# Altium integrated library Capacitor - RF.IntLib: 172 symbols (part 1 of 3)
Pins are listed as number, name and electrical type; pins without a type are passive.

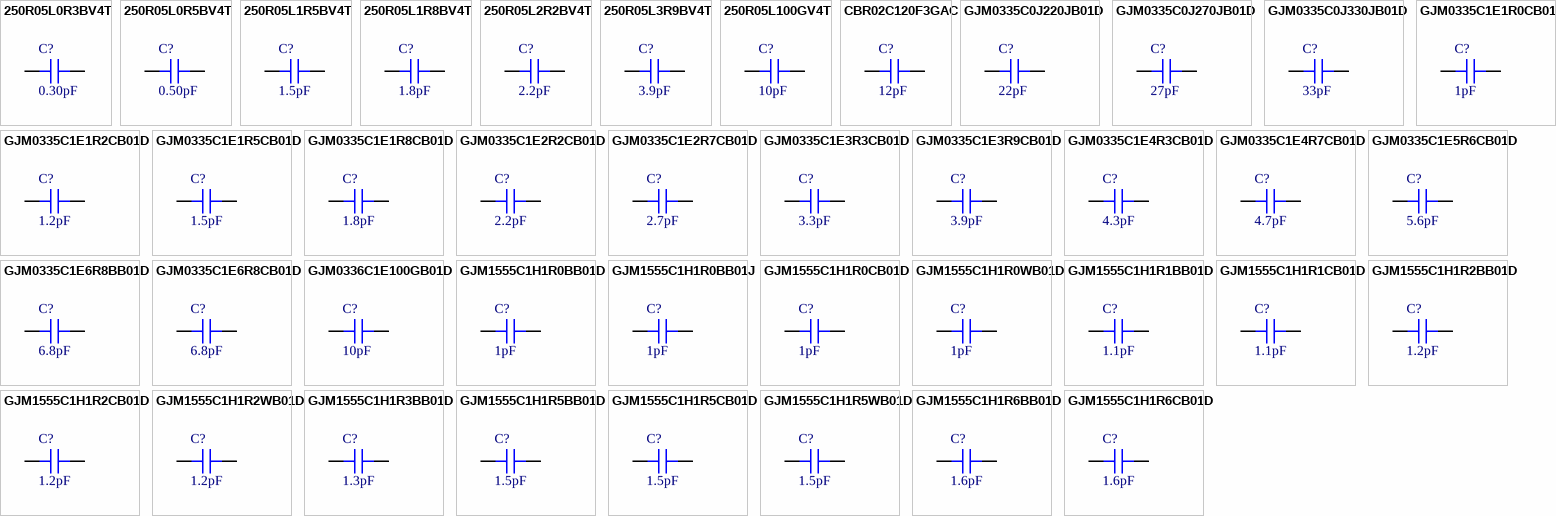
[diagram p0: symbols 250R05L0R3BV4T to GJM1555C1H1R6CB01D]

## 250R05L0R3BV4T
designator C?, comment 0.30pF
CAP CER 0.3PF 25V NP0 0201; Part Number: 250R05L0R3BV4T; Manufacturer: Johanson Technology Inc.; TemperatureRange: -55C ~ 125C; TemperatureCoefficient: C0G, NP0; Tolerance: 0.1pF; Value: 0.30pF; PartId: 21121; Supplier 1: Digi-Key; Supplier Part Number 1: 712-1466-2-ND; ComponentLink1Description: Datasheet; ComponentLink1URL: http://www.johansontechnology.com/downloads/JTI-CAT-MLCC-HighQ.pdf; ComponentLink2Description: Digi-Key Listing; ComponentLink2URL: https://www.digikey.com/product-detail/en/johanson-technology-inc/250R05L0R3BV4T/712-1466-2-ND/1916336; Voltage: 25V; Price: 0.01; Device Package: 0201 (0603 Metric)
footprint CAP 0201/0603 RF
pins: 1, 2

## 250R05L0R5BV4T
designator C?, comment 0.50pF
CAP CER 0.5PF 25V NP0 0201; Part Number: 250R05L0R5BV4T; Manufacturer: Johanson Technology Inc.; TemperatureRange: -55C ~ 125C; TemperatureCoefficient: C0G, NP0; Tolerance: 0.1pF; Value: 0.50pF; PartId: 21122; Supplier 1: Digi-Key; Supplier Part Number 1: 712-1467-2-ND; ComponentLink1Description: Datasheet; ComponentLink1URL: http://www.johansontechnology.com/downloads/JTI-CAT-MLCC-HighQ.pdf; ComponentLink2Description: Digi-Key Listing; ComponentLink2URL: https://www.digikey.com/product-detail/en/johanson-technology-inc/250R05L0R5BV4T/712-1467-2-ND/1916338; Voltage: 25V; Price: 0.01; Device Package: 0201 (0603 Metric)
footprint CAP 0201/0603 RF
pins: 1, 2

## 250R05L1R5BV4T
designator C?, comment 1.5pF
CAP CER 1.5PF 25V NP0 0201; Part Number: 250R05L1R5BV4T; Manufacturer: Johanson Technology Inc.; TemperatureRange: -55C ~ 125C; TemperatureCoefficient: C0G, NP0; Tolerance: 0.1pF; Value: 1.5pF; PartId: 21099; Supplier 1: Digi-Key; Supplier Part Number 1: 712-1185-2-ND; ComponentLink1Description: Datasheet; ComponentLink1URL: http://www.johansontechnology.com/downloads/JTI-CAT-MLCC-HighQ.pdf; ComponentLink2Description: Digi-Key Listing; ComponentLink2URL: https://www.digikey.com/product-detail/en/johanson-technology-inc/250R05L1R5BV4T/712-1185-2-ND/1561452; Voltage: 25V; Price: 0.0247; Device Package: 0201 (0603 Metric)
footprint CAP 0201/0603 RF
pins: 1, 2

## 250R05L1R8BV4T
designator C?, comment 1.8pF
CAP CER 1.8PF 25V NP0 0201; Part Number: 250R05L1R8BV4T; Manufacturer: Johanson Technology Inc.; TemperatureRange: -55C ~ 125C; TemperatureCoefficient: C0G, NP0; Tolerance: 0.1pF; Value: 1.8pF; PartId: 21100; Supplier 1: Digi-Key; Supplier Part Number 1: 712-1186-2-ND; ComponentLink1Description: Datasheet; ComponentLink1URL: http://www.johansontechnology.com/downloads/JTI-CAT-MLCC-HighQ.pdf; ComponentLink2Description: Digi-Key Listing; ComponentLink2URL: https://www.digikey.com/product-detail/en/johanson-technology-inc/250R05L1R8BV4T/712-1186-2-ND/1561453; Voltage: 25V; Price: 0.0247; Device Package: 0201 (0603 Metric)
footprint CAP 0201/0603 RF
pins: 1, 2

## 250R05L2R2BV4T
designator C?, comment 2.2pF
CAP CER 2.2PF 25V NP0 0201; Part Number: 250R05L2R2BV4T; Manufacturer: Johanson Technology Inc.; TemperatureRange: -55C ~ 125C; TemperatureCoefficient: C0G, NP0; Tolerance: 0.1pF; Value: 2.2pF; PartId: 21103; Supplier 1: Digi-Key; Supplier Part Number 1: 712-1188-2-ND; ComponentLink1Description: Datasheet; ComponentLink1URL: http://www.johansontechnology.com/downloads/JTI-CAT-MLCC-HighQ.pdf; ComponentLink2Description: Digi-Key Listing; ComponentLink2URL: https://www.digikey.com/product-detail/en/johanson-technology-inc/250R05L2R2BV4T/712-1188-2-ND/1561456; Voltage: 25V; Price: 0.0342; Device Package: 0201 (0603 Metric)
footprint CAP 0201/0603 RF
pins: 1, 2

## 250R05L3R9BV4T
designator C?, comment 3.9pF
CAP CER 3.9PF 25V NP0 0201; Part Number: 250R05L3R9BV4T; Manufacturer: Johanson Technology Inc.; TemperatureRange: -55C ~ 125C; TemperatureCoefficient: C0G, NP0; Tolerance: 0.1pF; Value: 3.9pF; PartId: 21101; Supplier 1: Digi-Key; Supplier Part Number 1: 712-1470-2-ND; ComponentLink1Description: Datasheet; ComponentLink1URL: http://www.johansontechnology.com/downloads/JTI-CAT-MLCC-HighQ.pdf; ComponentLink2Description: Digi-Key Listing; ComponentLink2URL: https://www.digikey.com/product-detail/en/johanson-technology-inc/250R05L3R9BV4T/712-1470-2-ND/1916344; Voltage: 25V; Price: 0.0342; Device Package: 0201 (0603 Metric)
footprint CAP 0201/0603 RF
pins: 1, 2

## 250R05L100GV4T
designator C?, comment 10pF
CAP CER 10PF 25V NP0 0201; Part Number: 250R05L100GV4T; Manufacturer: Johanson Technology Inc.; TemperatureRange: -55C ~ 125C; TemperatureCoefficient: C0G, NP0; Tolerance: 2%; Value: 10pF; PartId: 21102; Supplier 1: Digi-Key; Supplier Part Number 1: 712-1204-2-ND; ComponentLink1Description: Datasheet; ComponentLink1URL: http://www.johansontechnology.com/downloads/JTI-CAT-MLCC-HighQ.pdf; ComponentLink2Description: Digi-Key Listing; ComponentLink2URL: https://www.digikey.com/product-detail/en/johanson-technology-inc/250R05L100GV4T/712-1204-2-ND/1561472; Voltage: 25V; Price: 0.0342; Device Package: 0201 (0603 Metric)
footprint CAP 0201/0603 RF
pins: 1, 2

## CBR02C120F3GAC
designator C?, comment 12pF
CAP CER 12PF 25V NP0 0201; Part Number: CBR02C120F3GAC; Manufacturer: Kemet; TemperatureRange: -55C ~ 125C; TemperatureCoefficient: C0G, NP0; Tolerance: 1%; Value: 12pF; PartId: 21104; Supplier 1: Digi-Key; Supplier Part Number 1: 399-8604-2-ND; ComponentLink1Description: Datasheet; ComponentLink1URL: http://www.kemet.com/docfinder?Partnumber=CBR02C120F3GAC; ComponentLink2Description: Digi-Key Listing; ComponentLink2URL: https://www.digikey.com/product-detail/en/kemet/CBR02C120F3GAC/399-8604-2-ND/3479199; Voltage: 25V; Price: 0.064; Device Package: 0201 (0603 Metric)
footprint CAP 0201/0603 RF
pins: 1, 2

## GJM0335C0J220JB01D
designator C?, comment 22pF
CAP CER 22PF 6.3V NP0 0201; Part Number: GJM0335C0J220JB01D; Manufacturer: Murata Electronics North America; TemperatureRange: -55C ~ 125C; TemperatureCoefficient: C0G, NP0; Tolerance: 5%; Value: 22pF; PartId: 21116; Supplier 1: Digi-Key; Supplier Part Number 1: 490-6068-2-ND; ComponentLink1Description: Datasheet; ComponentLink1URL: http://www.murata.com/~/media/webrenewal/support/library/catalog/products/capacitor/mlcc/c02e.pdf; ComponentLink2Description: Digi-Key Listing; ComponentLink2URL: https://www.digikey.com/product-detail/en/murata-electronics-north-america/GJM0335C0J220JB01D/490-6068-2-ND/2592493; Voltage: 6.3V; Price: 0.0076; Device Package: 0201 (0603 Metric)
footprint CAP 0201/0603 RF
pins: 1, 2

## GJM0335C0J270JB01D
designator C?, comment 27pF
CAP CER 27PF 6.3V NP0 0201; Part Number: GJM0335C0J270JB01D; Manufacturer: Murata Electronics North America; TemperatureRange: -55C ~ 125C; TemperatureCoefficient: C0G, NP0; Tolerance: 5%; Value: 27pF; PartId: 21117; Supplier 1: Digi-Key; Supplier Part Number 1: 490-8067-2-ND; ComponentLink1Description: Datasheet; ComponentLink1URL: http://www.murata.com/~/media/webrenewal/support/library/catalog/products/capacitor/mlcc/c02e.pdf; ComponentLink2Description: Digi-Key Listing; ComponentLink2URL: https://www.digikey.com/product-detail/en/murata-electronics-north-america/GJM0335C0J270JB01D/490-8067-2-ND/2592497; Voltage: 6.3V; Price: 0.0076; Device Package: 0201 (0603 Metric)
footprint CAP 0201/0603 RF
pins: 1, 2

## GJM0335C0J330JB01D
designator C?, comment 33pF
CAP CER 33PF 6.3V NP0 0201; Part Number: GJM0335C0J330JB01D; Manufacturer: Murata Electronics North America; TemperatureRange: -55C ~ 125C; TemperatureCoefficient: C0G, NP0; Tolerance: 5%; Value: 33pF; PartId: 21115; Supplier 1: Digi-Key; Supplier Part Number 1: 490-8068-2-ND; ComponentLink1Description: Datasheet; ComponentLink1URL: http://www.murata.com/~/media/webrenewal/support/library/catalog/products/capacitor/mlcc/c02e.pdf; ComponentLink2Description: Digi-Key Listing; ComponentLink2URL: https://www.digikey.com/product-detail/en/murata-electronics-north-america/GJM0335C0J330JB01D/490-8068-2-ND/2592501; Voltage: 6.3V; Price: 0.0076; Device Package: 0201 (0603 Metric)
footprint CAP 0201/0603 RF
pins: 1, 2

## GJM0335C1E1R0CB01D
designator C?, comment 1pF
CAP CER 1PF 25V NP0 0201; Part Number: GJM0335C1E1R0CB01D; Manufacturer: Murata Electronics North America; TemperatureRange: -55C ~ 125C; TemperatureCoefficient: C0G, NP0; Tolerance: 0.25pF; Value: 1pF; PartId: 21119; Supplier 1: Digi-Key; Supplier Part Number 1: 490-3053-2-ND; ComponentLink1Description: Datasheet; ComponentLink1URL: http://www.murata.com/~/media/webrenewal/support/library/catalog/products/capacitor/mlcc/c02e.pdf; ComponentLink2Description: Digi-Key Listing; ComponentLink2URL: https://www.digikey.com/product-detail/en/murata-electronics-north-america/GJM0335C1E1R0CB01D/490-3053-2-ND/702246; Voltage: 25V; Price: 0.009; Device Package: 0201 (0603 Metric)
footprint CAP 0201/0603 RF
pins: 1, 2

## GJM0335C1E1R2CB01D
designator C?, comment 1.2pF
CAP CER 1.2PF 25V NP0 0201; Part Number: GJM0335C1E1R2CB01D; Manufacturer: Murata Electronics North America; TemperatureRange: -55C ~ 125C; TemperatureCoefficient: C0G, NP0; Tolerance: 0.25pF; Value: 1.2pF; PartId: 21111; Supplier 1: Digi-Key; Supplier Part Number 1: 490-3055-2-ND; ComponentLink1Description: Datasheet; ComponentLink1URL: http://www.murata.com/~/media/webrenewal/support/library/catalog/products/capacitor/mlcc/c02e.pdf; ComponentLink2Description: Digi-Key Listing; ComponentLink2URL: https://www.digikey.com/product-detail/en/murata-electronics-north-america/GJM0335C1E1R2CB01D/490-3055-2-ND/702248; Voltage: 25V; Price: 0.0062; Device Package: 0201 (0603 Metric)
footprint CAP 0201/0603 RF
pins: 1, 2

## GJM0335C1E1R5CB01D
designator C?, comment 1.5pF
CAP CER 1.5PF 25V NP0 0201; Part Number: GJM0335C1E1R5CB01D; Manufacturer: Murata Electronics North America; TemperatureRange: -55C ~ 125C; TemperatureCoefficient: C0G, NP0; Tolerance: 0.25pF; Value: 1.5pF; PartId: 21108; Supplier 1: Digi-Key; Supplier Part Number 1: 490-3057-2-ND; ComponentLink1Description: Datasheet; ComponentLink1URL: http://www.murata.com/~/media/webrenewal/support/library/catalog/products/capacitor/mlcc/c02e.pdf; ComponentLink2Description: Digi-Key Listing; ComponentLink2URL: https://www.digikey.com/product-detail/en/murata-electronics-north-america/GJM0335C1E1R5CB01D/490-3057-2-ND/702250; Voltage: 25V; Price: 0.0062; Device Package: 0201 (0603 Metric)
footprint CAP 0201/0603 RF
pins: 1, 2

## GJM0335C1E1R8CB01D
designator C?, comment 1.8pF
CAP CER 1.8PF 25V NP0 0201; Part Number: GJM0335C1E1R8CB01D; Manufacturer: Murata Electronics North America; TemperatureRange: -55C ~ 125C; TemperatureCoefficient: C0G, NP0; Tolerance: 0.25pF; Value: 1.8pF; PartId: 21106; Supplier 1: Digi-Key; Supplier Part Number 1: 490-3059-2-ND; ComponentLink1Description: Datasheet; ComponentLink1URL: http://www.murata.com/~/media/webrenewal/support/library/catalog/products/capacitor/mlcc/c02e.pdf; ComponentLink2Description: Digi-Key Listing; ComponentLink2URL: https://www.digikey.com/product-detail/en/murata-electronics-north-america/GJM0335C1E1R8CB01D/490-3059-2-ND/702252; Voltage: 25V; Price: 0.0062; Device Package: 0201 (0603 Metric)
footprint CAP 0201/0603 RF
pins: 1, 2

## GJM0335C1E2R2CB01D
designator C?, comment 2.2pF
CAP CER 2.2PF 25V NP0 0201; Part Number: GJM0335C1E2R2CB01D; Manufacturer: Murata Electronics North America; TemperatureRange: -55C ~ 125C; TemperatureCoefficient: C0G, NP0; Tolerance: 0.25pF; Value: 2.2pF; PartId: 21105; Supplier 1: Digi-Key; Supplier Part Number 1: 490-3061-2-ND; ComponentLink1Description: Datasheet; ComponentLink1URL: http://www.murata.com/~/media/webrenewal/support/library/catalog/products/capacitor/mlcc/c02e.pdf; ComponentLink2Description: Digi-Key Listing; ComponentLink2URL: https://www.digikey.com/product-detail/en/murata-electronics-north-america/GJM0335C1E2R2CB01D/490-3061-2-ND/702254; Voltage: 25V; Price: 0.0062; Device Package: 0201 (0603 Metric)
footprint CAP 0201/0603 RF
pins: 1, 2

## GJM0335C1E2R7CB01D
designator C?, comment 2.7pF
CAP CER 2.7PF 25V NP0 0201; Part Number: GJM0335C1E2R7CB01D; Manufacturer: Murata Electronics North America; TemperatureRange: -55C ~ 125C; TemperatureCoefficient: C0G, NP0; Tolerance: 0.25pF; Value: 2.7pF; PartId: 21112; Supplier 1: Digi-Key; Supplier Part Number 1: 490-3063-2-ND; ComponentLink1Description: Datasheet; ComponentLink1URL: http://www.murata.com/~/media/webrenewal/support/library/catalog/products/capacitor/mlcc/c02e.pdf; ComponentLink2Description: Digi-Key Listing; ComponentLink2URL: https://www.digikey.com/product-detail/en/murata-electronics-north-america/GJM0335C1E2R7CB01D/490-3063-2-ND/702256; Voltage: 25V; Price: 0.0062; Device Package: 0201 (0603 Metric)
footprint CAP 0201/0603 RF
pins: 1, 2

## GJM0335C1E3R3CB01D
designator C?, comment 3.3pF
CAP CER 3.3PF 25V NP0 0201; Part Number: GJM0335C1E3R3CB01D; Manufacturer: Murata Electronics North America; TemperatureRange: -55C ~ 125C; TemperatureCoefficient: C0G, NP0; Tolerance: 0.25pF; Value: 3.3pF; PartId: 21109; Supplier 1: Digi-Key; Supplier Part Number 1: 490-3065-2-ND; ComponentLink1Description: Datasheet; ComponentLink1URL: http://www.murata.com/~/media/webrenewal/support/library/catalog/products/capacitor/mlcc/c02e.pdf; ComponentLink2Description: Digi-Key Listing; ComponentLink2URL: https://www.digikey.com/product-detail/en/murata-electronics-north-america/GJM0335C1E3R3CB01D/490-3065-2-ND/702258; Voltage: 25V; Price: 0.0062; Device Package: 0201 (0603 Metric)
footprint CAP 0201/0603 RF
pins: 1, 2

## GJM0335C1E3R9CB01D
designator C?, comment 3.9pF
CAP CER 3.9PF 25V NP0 0201; Part Number: GJM0335C1E3R9CB01D; Manufacturer: Murata Electronics North America; TemperatureRange: -55C ~ 125C; TemperatureCoefficient: C0G, NP0; Tolerance: 0.25pF; Value: 3.9pF; PartId: 21118; Supplier 1: Digi-Key; Supplier Part Number 1: 490-3067-2-ND; ComponentLink1Description: Datasheet; ComponentLink1URL: http://www.murata.com/~/media/webrenewal/support/library/catalog/products/capacitor/mlcc/c02e.pdf; ComponentLink2Description: Digi-Key Listing; ComponentLink2URL: https://www.digikey.com/product-detail/en/murata-electronics-north-america/GJM0335C1E3R9CB01D/490-3067-2-ND/702260; Voltage: 25V; Price: 0.009; Device Package: 0201 (0603 Metric)
footprint CAP 0201/0603 RF
pins: 1, 2

## GJM0335C1E4R3CB01D
designator C?, comment 4.3pF
CAP CER 4.3PF 25V NP0 0201; Part Number: GJM0335C1E4R3CB01D; Manufacturer: Murata Electronics North America; TemperatureRange: -55C ~ 125C; TemperatureCoefficient: C0G, NP0; Tolerance: 0.25pF; Value: 4.3pF; PartId: 21113; Supplier 1: Digi-Key; Supplier Part Number 1: 490-3069-2-ND; ComponentLink1Description: Datasheet; ComponentLink1URL: http://www.murata.com/~/media/webrenewal/support/library/catalog/products/capacitor/mlcc/c02e.pdf; ComponentLink2Description: Digi-Key Listing; ComponentLink2URL: https://www.digikey.com/product-detail/en/murata-electronics-north-america/GJM0335C1E4R3CB01D/490-3069-2-ND/702262; Voltage: 25V; Price: 0.0062; Device Package: 0201 (0603 Metric)
footprint CAP 0201/0603 RF
pins: 1, 2

## GJM0335C1E4R7CB01D
designator C?, comment 4.7pF
CAP CER 4.7PF 25V NP0 0201; Part Number: GJM0335C1E4R7CB01D; Manufacturer: Murata Electronics North America; TemperatureRange: -55C ~ 125C; TemperatureCoefficient: C0G, NP0; Tolerance: 0.25pF; Value: 4.7pF; PartId: 21110; Supplier 1: Digi-Key; Supplier Part Number 1: 490-3070-2-ND; ComponentLink1Description: Datasheet; ComponentLink1URL: http://www.murata.com/~/media/webrenewal/support/library/catalog/products/capacitor/mlcc/c02e.pdf; ComponentLink2Description: Digi-Key Listing; ComponentLink2URL: https://www.digikey.com/product-detail/en/murata-electronics-north-america/GJM0335C1E4R7CB01D/490-3070-2-ND/702263; Voltage: 25V; Price: 0.0062; Device Package: 0201 (0603 Metric)
footprint CAP 0201/0603 RF
pins: 1, 2

## GJM0335C1E5R6CB01D
designator C?, comment 5.6pF
CAP CER 5.6PF 25V NP0 0201; Part Number: GJM0335C1E5R6CB01D; Manufacturer: Murata Electronics North America; TemperatureRange: -55C ~ 125C; TemperatureCoefficient: C0G, NP0; Tolerance: 0.25pF; Value: 5.6pF; PartId: 21107; Supplier 1: Digi-Key; Supplier Part Number 1: 490-3073-2-ND; ComponentLink1Description: Datasheet; ComponentLink1URL: http://www.murata.com/~/media/webrenewal/support/library/catalog/products/capacitor/mlcc/c02e.pdf; ComponentLink2Description: Digi-Key Listing; ComponentLink2URL: https://www.digikey.com/product-detail/en/murata-electronics-north-america/GJM0335C1E5R6CB01D/490-3073-2-ND/702266; Voltage: 25V; Price: 0.0062; Device Package: 0201 (0603 Metric)
footprint CAP 0201/0603 RF
pins: 1, 2

## GJM0335C1E6R8BB01D
designator C?, comment 6.8pF
CAP CER 6.8PF 25V NP0 0201; Part Number: GJM0335C1E6R8BB01D; Manufacturer: Murata Electronics North America; TemperatureRange: -55C ~ 125C; TemperatureCoefficient: C0G, NP0; Tolerance: 0.1pF; Value: 6.8pF; PartId: 21123; Supplier 1: Digi-Key; Supplier Part Number 1: 490-11183-2-ND; ComponentLink1Description: Datasheet; ComponentLink1URL: http://www.murata.com/~/media/webrenewal/support/library/catalog/products/capacitor/mlcc/c02e.pdf; ComponentLink2Description: Digi-Key Listing; ComponentLink2URL: https://www.digikey.com/product-detail/en/murata-electronics-north-america/GJM0335C1E6R8BB01D/490-11183-2-ND/2592738; Voltage: 25V; Price: 0.0108; Device Package: 0201 (0603 Metric)
footprint CAP 0201/0603 RF
pins: 1, 2

## GJM0335C1E6R8CB01D
designator C?, comment 6.8pF
CAP CER 6.8PF 25V NP0 0201; Part Number: GJM0335C1E6R8CB01D; Manufacturer: Murata Electronics North America; TemperatureRange: -55C ~ 125C; TemperatureCoefficient: C0G, NP0; Tolerance: 0.25pF; Value: 6.8pF; PartId: 21114; Supplier 1: Digi-Key; Supplier Part Number 1: 490-3076-2-ND; ComponentLink1Description: Datasheet; ComponentLink1URL: http://www.murata.com/~/media/webrenewal/support/library/catalog/products/capacitor/mlcc/c02e.pdf; ComponentLink2Description: Digi-Key Listing; ComponentLink2URL: https://www.digikey.com/product-detail/en/murata-electronics-north-america/GJM0335C1E6R8CB01D/490-3076-2-ND/702269; Voltage: 25V; Price: 0.0062; Device Package: 0201 (0603 Metric)
footprint CAP 0201/0603 RF
pins: 1, 2

## GJM0336C1E100GB01D
designator C?, comment 10pF
CAP CER 10PF 25V C0H 0201; Part Number: GJM0336C1E100GB01D; Manufacturer: Murata Electronics North America; TemperatureRange: -55C ~ 125C; Tolerance: 2%; Value: 10pF; PartId: 21120; Supplier 1: Digi-Key; Supplier Part Number 1: 490-11186-2-ND; ComponentLink1Description: Datasheet; ComponentLink1URL: http://www.murata.com/~/media/webrenewal/support/library/catalog/products/capacitor/mlcc/c02e.pdf; ComponentLink2Description: Digi-Key Listing; ComponentLink2URL: https://www.digikey.com/product-detail/en/murata-electronics-north-america/GJM0336C1E100GB01D/490-11186-2-ND/2592781; TemperatureCoefficient: C0H; Voltage: 25V; Price: 0.0092; Device Package: 0201 (0603 Metric)
footprint CAP 0201/0603 RF
pins: 1, 2

## GJM1555C1H1R0BB01D
designator C?, comment 1pF
CAP CER 1PF 50V NP0 0402; Part Number: GJM1555C1H1R0BB01D; Manufacturer: Murata Electronics North America; TemperatureRange: -55C ~ 125C; TemperatureCoefficient: C0G, NP0; Tolerance: 0.1pF; Type: High Q, Low Loss; Value: 1pF; PartId: 3711; Supplier 1: Digi-Key; Supplier Part Number 1: 490-6073-2-ND; ComponentLink1Description: Datasheet; ComponentLink1URL: http://www.murata.com/~/media/webrenewal/support/library/catalog/products/capacitor/mlcc/c02e.ashx; ComponentLink2Description: Digi-Key listing; ComponentLink2URL: http://digikey.com/product-detail/en/GJM1555C1H1R0BB01D/490-6073-2-ND/2592864; Voltage: 50V; Price: 0.0393; Device Package: 0402 (1005 Metric)
footprint CAP 0402/1005 RF
pins: 1, 2

## GJM1555C1H1R0BB01J
designator C?, comment 1pF
CAP CER 1PF 50V NP0 0402; Part Number: GJM1555C1H1R0BB01J; Manufacturer: Murata Electronics North America; TemperatureRange: -55C ~ 125C; TemperatureCoefficient: C0G, NP0; Tolerance: 0.1pF; Type: High Q, Low Loss; Value: 1pF; PartId: 3712; Supplier 1: Digi-Key; Supplier Part Number 1: 490-8083-2-ND; ComponentLink1Description: Datasheet; ComponentLink1URL: http://www.murata.com/~/media/webrenewal/support/library/catalog/products/capacitor/mlcc/c02e.ashx; ComponentLink2Description: Digi-Key listing; ComponentLink2URL: http://digikey.com/product-detail/en/GJM1555C1H1R0BB01J/490-8083-2-ND/2592865; Voltage: 50V; Price: 0.0324; Device Package: 0402 (1005 Metric)
footprint CAP 0402/1005 RF
pins: 1, 2

## GJM1555C1H1R0CB01D
designator C?, comment 1pF
CAP CER 1PF 50V NP0 0402; Part Number: GJM1555C1H1R0CB01D; Manufacturer: Murata Electronics North America; TemperatureRange: -55C ~ 125C; TemperatureCoefficient: C0G, NP0; Tolerance: 0.25pF; Type: High Q, Low Loss; Value: 1pF; PartId: 3724; Supplier 1: Digi-Key; Supplier Part Number 1: 490-3083-2-ND; ComponentLink1Description: Datasheet; ComponentLink1URL: http://www.murata.com/~/media/webrenewal/support/library/catalog/products/capacitor/mlcc/c02e.ashx; ComponentLink2Description: Digi-Key listing; ComponentLink2URL: http://digikey.com/product-detail/en/GJM1555C1H1R0CB01D/490-3083-2-ND/702276; Voltage: 50V; Price: 0.0211; Device Package: 0402 (1005 Metric)
footprint CAP 0402/1005 RF
pins: 1, 2

## GJM1555C1H1R0WB01D
designator C?, comment 1pF
CAP CER 1PF 50V NP0 0402; Part Number: GJM1555C1H1R0WB01D; Manufacturer: Murata Electronics North America; TemperatureRange: -55C ~ 125C; TemperatureCoefficient: C0G, NP0; Tolerance: 0.05pF; Type: High Q, Low Loss; Value: 1pF; PartId: 3779; Supplier 1: Digi-Key; Supplier Part Number 1: 490-11193-2-ND; ComponentLink1Description: Datasheet; ComponentLink1URL: http://www.murata.com/~/media/webrenewal/support/library/catalog/products/capacitor/mlcc/c02e.ashx; ComponentLink2Description: Digi-Key listing; ComponentLink2URL: http://digikey.com/product-detail/en/GJM1555C1H1R0WB01D/490-11193-2-ND/2592867; Voltage: 50V; Price: 0.0678; Device Package: 0402 (1005 Metric)
footprint CAP 0402/1005 RF
pins: 1, 2

## GJM1555C1H1R1BB01D
designator C?, comment 1.1pF
CAP CER 1.1PF 50V NP0 0402; Part Number: GJM1555C1H1R1BB01D; Manufacturer: Murata Electronics North America; TemperatureRange: -55C ~ 125C; TemperatureCoefficient: C0G, NP0; Tolerance: 0.1pF; Type: High Q, Low Loss; Value: 1.1pF; PartId: 3751; Supplier 1: Digi-Key; Supplier Part Number 1: 490-8084-2-ND; ComponentLink1Description: Datasheet; ComponentLink1URL: http://www.murata.com/~/media/webrenewal/support/library/catalog/products/capacitor/mlcc/c02e.ashx; ComponentLink2Description: Digi-Key listing; ComponentLink2URL: http://digikey.com/product-detail/en/GJM1555C1H1R1BB01D/490-8084-2-ND/2592869; Voltage: 50V; Price: 0.0393; Device Package: 0402 (1005 Metric)
footprint CAP 0402/1005 RF
pins: 1, 2

## GJM1555C1H1R1CB01D
designator C?, comment 1.1pF
CAP CER 1.1PF 50V NP0 0402; Part Number: GJM1555C1H1R1CB01D; Manufacturer: Murata Electronics North America; TemperatureRange: -55C ~ 125C; TemperatureCoefficient: C0G, NP0; Tolerance: 0.25pF; Type: High Q, Low Loss; Value: 1.1pF; PartId: 3791; Supplier 1: Digi-Key; Supplier Part Number 1: 490-3084-2-ND; ComponentLink1Description: Datasheet; ComponentLink1URL: http://www.murata.com/~/media/webrenewal/support/library/catalog/products/capacitor/mlcc/c02e.ashx; ComponentLink2Description: Digi-Key listing; ComponentLink2URL: http://digikey.com/product-detail/en/GJM1555C1H1R1CB01D/490-3084-2-ND/702277; Voltage: 50V; Price: 0.016; Device Package: 0402 (1005 Metric)
footprint CAP 0402/1005 RF
pins: 1, 2

## GJM1555C1H1R2BB01D
designator C?, comment 1.2pF
CAP CER 1.2PF 50V NP0 0402; Part Number: GJM1555C1H1R2BB01D; Manufacturer: Murata Electronics North America; TemperatureRange: -55C ~ 125C; TemperatureCoefficient: C0G, NP0; Tolerance: 0.1pF; Type: High Q, Low Loss; Value: 1.2pF; PartId: 3747; Supplier 1: Digi-Key; Supplier Part Number 1: 490-8085-2-ND; ComponentLink1Description: Datasheet; ComponentLink1URL: http://www.murata.com/~/media/webrenewal/support/library/catalog/products/capacitor/mlcc/c02e.ashx; ComponentLink2Description: Digi-Key listing; ComponentLink2URL: http://digikey.com/product-detail/en/GJM1555C1H1R2BB01D/490-8085-2-ND/2592874; Voltage: 50V; Price: 0.0393; Device Package: 0402 (1005 Metric)
footprint CAP 0402/1005 RF
pins: 1, 2

## GJM1555C1H1R2CB01D
designator C?, comment 1.2pF
CAP CER 1.2PF 50V NP0 0402; Part Number: GJM1555C1H1R2CB01D; Manufacturer: Murata Electronics North America; TemperatureRange: -55C ~ 125C; TemperatureCoefficient: C0G, NP0; Tolerance: 0.25pF; Type: High Q, Low Loss; Value: 1.2pF; PartId: 3716; Supplier 1: Digi-Key; Supplier Part Number 1: 490-3085-2-ND; ComponentLink1Description: Datasheet; ComponentLink1URL: http://www.murata.com/~/media/webrenewal/support/library/catalog/products/capacitor/mlcc/c02e.ashx; ComponentLink2Description: Digi-Key listing; ComponentLink2URL: http://digikey.com/product-detail/en/GJM1555C1H1R2CB01D/490-3085-2-ND/702278; Voltage: 50V; Price: 0.016; Device Package: 0402 (1005 Metric)
footprint CAP 0402/1005 RF
pins: 1, 2

## GJM1555C1H1R2WB01D
designator C?, comment 1.2pF
CAP CER 1.2PF 50V NP0 0402; Part Number: GJM1555C1H1R2WB01D; Manufacturer: Murata Electronics North America; TemperatureRange: -55C ~ 125C; TemperatureCoefficient: C0G, NP0; Tolerance: 0.05pF; Type: High Q, Low Loss; Value: 1.2pF; PartId: 3788; Supplier 1: Digi-Key; Supplier Part Number 1: 490-11195-2-ND; ComponentLink1Description: Datasheet; ComponentLink1URL: http://www.murata.com/~/media/webrenewal/support/library/catalog/products/capacitor/mlcc/c02e.ashx; ComponentLink2Description: Digi-Key listing; ComponentLink2URL: http://digikey.com/product-detail/en/GJM1555C1H1R2WB01D/490-11195-2-ND/2592877; Voltage: 50V; Price: 0.0678; Device Package: 0402 (1005 Metric)
footprint CAP 0402/1005 RF
pins: 1, 2

## GJM1555C1H1R3BB01D
designator C?, comment 1.3pF
CAP CER 1.3PF 50V NP0 0402; Part Number: GJM1555C1H1R3BB01D; Manufacturer: Murata Electronics North America; TemperatureRange: -55C ~ 125C; TemperatureCoefficient: C0G, NP0; Tolerance: 0.1pF; Type: High Q, Low Loss; Value: 1.3pF; PartId: 3762; Supplier 1: Digi-Key; Supplier Part Number 1: 490-8086-2-ND; ComponentLink1Description: Datasheet; ComponentLink1URL: http://www.murata.com/~/media/webrenewal/support/library/catalog/products/capacitor/mlcc/c02e.ashx; ComponentLink2Description: Digi-Key listing; ComponentLink2URL: http://digikey.com/product-detail/en/GJM1555C1H1R3BB01D/490-8086-2-ND/2592879; Voltage: 50V; Price: 0.0393; Device Package: 0402 (1005 Metric)
footprint CAP 0402/1005 RF
pins: 1, 2

## GJM1555C1H1R5BB01D
designator C?, comment 1.5pF
CAP CER 1.5PF 50V NP0 0402; Part Number: GJM1555C1H1R5BB01D; Manufacturer: Murata Electronics North America; TemperatureRange: -55C ~ 125C; TemperatureCoefficient: C0G, NP0; Tolerance: 0.1pF; Type: High Q, Low Loss; Value: 1.5pF; PartId: 3710; Supplier 1: Digi-Key; Supplier Part Number 1: 490-8087-2-ND; ComponentLink1Description: Datasheet; ComponentLink1URL: http://www.murata.com/~/media/webrenewal/support/library/catalog/products/capacitor/mlcc/c02e.ashx; ComponentLink2Description: Digi-Key listing; ComponentLink2URL: http://digikey.com/product-detail/en/GJM1555C1H1R5BB01D/490-8087-2-ND/2592887; Voltage: 50V; Price: 0.0393; Device Package: 0402 (1005 Metric)
footprint CAP 0402/1005 RF
pins: 1, 2

## GJM1555C1H1R5CB01D
designator C?, comment 1.5pF
CAP CER 1.5PF 50V NP0 0402; Part Number: GJM1555C1H1R5CB01D; Manufacturer: Murata Electronics North America; TemperatureRange: -55C ~ 125C; TemperatureCoefficient: C0G, NP0; Tolerance: 0.25pF; Type: High Q, Low Loss; Value: 1.5pF; PartId: 3793; Supplier 1: Digi-Key; Supplier Part Number 1: 490-3087-2-ND; ComponentLink1Description: Datasheet; ComponentLink1URL: http://www.murata.com/~/media/webrenewal/support/library/catalog/products/capacitor/mlcc/c02e.ashx; ComponentLink2Description: Digi-Key listing; ComponentLink2URL: http://digikey.com/product-detail/en/GJM1555C1H1R5CB01D/490-3087-2-ND/702280; Voltage: 50V; Price: 0.0211; Device Package: 0402 (1005 Metric)
footprint CAP 0402/1005 RF
pins: 1, 2

## GJM1555C1H1R5WB01D
designator C?, comment 1.5pF
CAP CER 1.5PF 50V NP0 0402; Part Number: GJM1555C1H1R5WB01D; Manufacturer: Murata Electronics North America; TemperatureRange: -55C ~ 125C; TemperatureCoefficient: C0G, NP0; Tolerance: 0.05pF; Type: High Q, Low Loss; Value: 1.5pF; PartId: 3790; Supplier 1: Digi-Key; Supplier Part Number 1: 490-11199-2-ND; ComponentLink1Description: Datasheet; ComponentLink1URL: http://www.murata.com/~/media/webrenewal/support/library/catalog/products/capacitor/mlcc/c02e.ashx; ComponentLink2Description: Digi-Key listing; ComponentLink2URL: http://digikey.com/product-detail/en/GJM1555C1H1R5WB01D/490-11199-2-ND/2592890; Voltage: 50V; Price: 0.0678; Device Package: 0402 (1005 Metric)
footprint CAP 0402/1005 RF
pins: 1, 2

## GJM1555C1H1R6BB01D
designator C?, comment 1.6pF
CAP CER 1.6PF 50V NP0 0402; Part Number: GJM1555C1H1R6BB01D; Manufacturer: Murata Electronics North America; TemperatureRange: -55C ~ 125C; TemperatureCoefficient: C0G, NP0; Tolerance: 0.1pF; Type: High Q, Low Loss; Value: 1.6pF; PartId: 3763; Supplier 1: Digi-Key; Supplier Part Number 1: 490-8088-2-ND; ComponentLink1Description: Datasheet; ComponentLink1URL: http://www.murata.com/~/media/webrenewal/support/library/catalog/products/capacitor/mlcc/c02e.ashx; ComponentLink2Description: Digi-Key listing; ComponentLink2URL: http://digikey.com/product-detail/en/GJM1555C1H1R6BB01D/490-8088-2-ND/2592892; Voltage: 50V; Price: 0.0393; Device Package: 0402 (1005 Metric)
footprint CAP 0402/1005 RF
pins: 1, 2

## GJM1555C1H1R6CB01D
designator C?, comment 1.6pF
CAP CER 1.6PF 50V NP0 0402; Part Number: GJM1555C1H1R6CB01D; Manufacturer: Murata Electronics North America; TemperatureRange: -55C ~ 125C; TemperatureCoefficient: C0G, NP0; Tolerance: 0.25pF; Type: High Q, Low Loss; Value: 1.6pF; PartId: 3717; Supplier 1: Digi-Key; Supplier Part Number 1: 490-3088-2-ND; ComponentLink1Description: Datasheet; ComponentLink1URL: http://www.murata.com/~/media/webrenewal/support/library/catalog/products/capacitor/mlcc/c02e.ashx; ComponentLink2Description: Digi-Key listing; ComponentLink2URL: http://digikey.com/product-detail/en/GJM1555C1H1R6CB01D/490-3088-2-ND/702281; Voltage: 50V; Price: 0.016; Device Package: 0402 (1005 Metric)
footprint CAP 0402/1005 RF
pins: 1, 2

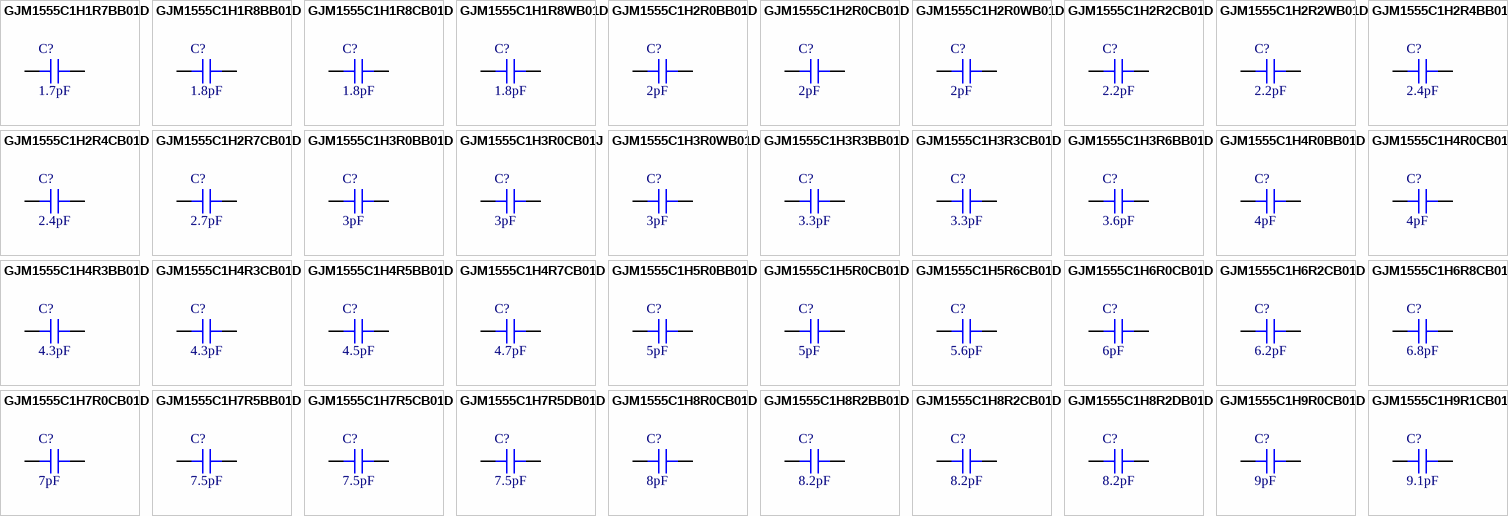
[diagram p1: symbols GJM1555C1H1R7BB01D to GJM1555C1H9R1CB01D]

## GJM1555C1H1R7BB01D
designator C?, comment 1.7pF
CAP CER 1.7PF 50V NP0 0402; Part Number: GJM1555C1H1R7BB01D; Manufacturer: Murata Electronics North America; TemperatureRange: -55C ~ 125C; TemperatureCoefficient: C0G, NP0; Tolerance: 0.1pF; Type: High Q, Low Loss; Value: 1.7pF; PartId: 3758; Supplier 1: Digi-Key; Supplier Part Number 1: 490-6074-2-ND; ComponentLink1Description: Datasheet; ComponentLink1URL: http://www.murata.com/~/media/webrenewal/support/library/catalog/products/capacitor/mlcc/c02e.ashx; ComponentLink2Description: Digi-Key listing; ComponentLink2URL: http://digikey.com/product-detail/en/GJM1555C1H1R7BB01D/490-6074-2-ND/2592897; Voltage: 50V; Price: 0.0393; Device Package: 0402 (1005 Metric)
footprint CAP 0402/1005 RF
pins: 1, 2

## GJM1555C1H1R8BB01D
designator C?, comment 1.8pF
CAP CER 1.8PF 50V NP0 0402; Part Number: GJM1555C1H1R8BB01D; Manufacturer: Murata Electronics North America; TemperatureRange: -55C ~ 125C; TemperatureCoefficient: C0G, NP0; Tolerance: 0.1pF; Type: High Q, Low Loss; Value: 1.8pF; PartId: 3764; Supplier 1: Digi-Key; Supplier Part Number 1: 490-8089-2-ND; ComponentLink1Description: Datasheet; ComponentLink1URL: http://www.murata.com/~/media/webrenewal/support/library/catalog/products/capacitor/mlcc/c02e.ashx; ComponentLink2Description: Digi-Key listing; ComponentLink2URL: http://digikey.com/product-detail/en/GJM1555C1H1R8BB01D/490-8089-2-ND/2592900; Voltage: 50V; Price: 0.0393; Device Package: 0402 (1005 Metric)
footprint CAP 0402/1005 RF
pins: 1, 2

## GJM1555C1H1R8CB01D
designator C?, comment 1.8pF
CAP CER 1.8PF 50V NP0 0402; Part Number: GJM1555C1H1R8CB01D; Manufacturer: Murata Electronics North America; TemperatureRange: -55C ~ 125C; TemperatureCoefficient: C0G, NP0; Tolerance: 0.25pF; Type: High Q, Low Loss; Value: 1.8pF; PartId: 3730; Supplier 1: Digi-Key; Supplier Part Number 1: 490-3089-2-ND; ComponentLink1Description: Datasheet; ComponentLink1URL: http://www.murata.com/~/media/webrenewal/support/library/catalog/products/capacitor/mlcc/c02e.ashx; ComponentLink2Description: Digi-Key listing; ComponentLink2URL: http://digikey.com/product-detail/en/GJM1555C1H1R8CB01D/490-3089-2-ND/702282; Voltage: 50V; Price: 0.0211; Device Package: 0402 (1005 Metric)
footprint CAP 0402/1005 RF
pins: 1, 2

## GJM1555C1H1R8WB01D
designator C?, comment 1.8pF
CAP CER 1.8PF 50V NP0 0402; Part Number: GJM1555C1H1R8WB01D; Manufacturer: Murata Electronics North America; TemperatureRange: -55C ~ 125C; TemperatureCoefficient: C0G, NP0; Tolerance: 0.05pF; Type: High Q, Low Loss; Value: 1.8pF; PartId: 3782; Supplier 1: Digi-Key; Supplier Part Number 1: 490-11202-2-ND; ComponentLink1Description: Datasheet; ComponentLink1URL: http://www.murata.com/~/media/webrenewal/support/library/catalog/products/capacitor/mlcc/c02e.ashx; ComponentLink2Description: Digi-Key listing; ComponentLink2URL: http://digikey.com/product-detail/en/GJM1555C1H1R8WB01D/490-11202-2-ND/2592903; Voltage: 50V; Price: 0.0678; Device Package: 0402 (1005 Metric)
footprint CAP 0402/1005 RF
pins: 1, 2

## GJM1555C1H2R0BB01D
designator C?, comment 2pF
CAP CER 2PF 50V NP0 0402; Part Number: GJM1555C1H2R0BB01D; Manufacturer: Murata Electronics North America; TemperatureRange: -55C ~ 125C; TemperatureCoefficient: C0G, NP0; Tolerance: 0.1pF; Type: High Q, Low Loss; Value: 2pF; PartId: 3765; Supplier 1: Digi-Key; Supplier Part Number 1: 490-8091-2-ND; ComponentLink1Description: Datasheet; ComponentLink1URL: http://www.murata.com/~/media/webrenewal/support/library/catalog/products/capacitor/mlcc/c02e.ashx; ComponentLink2Description: Digi-Key listing; ComponentLink2URL: http://digikey.com/product-detail/en/GJM1555C1H2R0BB01D/490-8091-2-ND/2592912; Voltage: 50V; Price: 0.0393; Device Package: 0402 (1005 Metric)
footprint CAP 0402/1005 RF
pins: 1, 2

## GJM1555C1H2R0CB01D
designator C?, comment 2pF
CAP CER 2PF 50V NP0 0402; Part Number: GJM1555C1H2R0CB01D; Manufacturer: Murata Electronics North America; TemperatureRange: -55C ~ 125C; TemperatureCoefficient: C0G, NP0; Tolerance: 0.25pF; Type: High Q, Low Loss; Value: 2pF; PartId: 3733; Supplier 1: Digi-Key; Supplier Part Number 1: 490-3090-2-ND; ComponentLink1Description: Datasheet; ComponentLink1URL: http://www.murata.com/~/media/webrenewal/support/library/catalog/products/capacitor/mlcc/c02e.ashx; ComponentLink2Description: Digi-Key listing; ComponentLink2URL: http://digikey.com/product-detail/en/GJM1555C1H2R0CB01D/490-3090-2-ND/702283; Voltage: 50V; Price: 0.0211; Device Package: 0402 (1005 Metric)
footprint CAP 0402/1005 RF
pins: 1, 2

## GJM1555C1H2R0WB01D
designator C?, comment 2pF
CAP CER 2PF 50V NP0 0402; Part Number: GJM1555C1H2R0WB01D; Manufacturer: Murata Electronics North America; TemperatureRange: -55C ~ 125C; TemperatureCoefficient: C0G, NP0; Tolerance: 0.05pF; Type: High Q, Low Loss; Value: 2pF; PartId: 3783; Supplier 1: Digi-Key; Supplier Part Number 1: 490-11205-2-ND; ComponentLink1Description: Datasheet; ComponentLink1URL: http://www.murata.com/~/media/webrenewal/support/library/catalog/products/capacitor/mlcc/c02e.ashx; ComponentLink2Description: Digi-Key listing; ComponentLink2URL: http://digikey.com/product-detail/en/GJM1555C1H2R0WB01D/490-11205-2-ND/2592914; Voltage: 50V; Price: 0.0678; Device Package: 0402 (1005 Metric)
footprint CAP 0402/1005 RF
pins: 1, 2

## GJM1555C1H2R2CB01D
designator C?, comment 2.2pF
CAP CER 2.2PF 50V NP0 0402; Part Number: GJM1555C1H2R2CB01D; Manufacturer: Murata Electronics North America; TemperatureRange: -55C ~ 125C; TemperatureCoefficient: C0G, NP0; Tolerance: 0.25pF; Type: High Q, Low Loss; Value: 2.2pF; PartId: 3718; Supplier 1: Digi-Key; Supplier Part Number 1: 490-3091-2-ND; ComponentLink1Description: Datasheet; ComponentLink1URL: http://www.murata.com/~/media/webrenewal/support/library/catalog/products/capacitor/mlcc/c02e.ashx; ComponentLink2Description: Digi-Key listing; ComponentLink2URL: http://digikey.com/product-detail/en/GJM1555C1H2R2CB01D/490-3091-2-ND/702284; Voltage: 50V; Price: 0.016; Device Package: 0402 (1005 Metric)
footprint CAP 0402/1005 RF
pins: 1, 2

## GJM1555C1H2R2WB01D
designator C?, comment 2.2pF
CAP CER 2.2PF 50V NP0 0402; Part Number: GJM1555C1H2R2WB01D; Manufacturer: Murata Electronics North America; TemperatureRange: -55C ~ 125C; TemperatureCoefficient: C0G, NP0; Tolerance: 0.05pF; Type: High Q, Low Loss; Value: 2.2pF; PartId: 3774; Supplier 1: Digi-Key; Supplier Part Number 1: 490-11207-2-ND; ComponentLink1Description: Datasheet; ComponentLink1URL: http://www.murata.com/~/media/webrenewal/support/library/catalog/products/capacitor/mlcc/c02e.ashx; ComponentLink2Description: Digi-Key listing; ComponentLink2URL: http://digikey.com/product-detail/en/GJM1555C1H2R2WB01D/490-11207-2-ND/2592921; Voltage: 50V; Price: 0.0678; Device Package: 0402 (1005 Metric)
footprint CAP 0402/1005 RF
pins: 1, 2

## GJM1555C1H2R4BB01D
designator C?, comment 2.4pF
CAP CER 2.4PF 50V NP0 0402; Part Number: GJM1555C1H2R4BB01D; Manufacturer: Murata Electronics North America; TemperatureRange: -55C ~ 125C; TemperatureCoefficient: C0G, NP0; Tolerance: 0.1pF; Type: High Q, Low Loss; Value: 2.4pF; PartId: 3753; Supplier 1: Digi-Key; Supplier Part Number 1: 490-8093-2-ND; ComponentLink1Description: Datasheet; ComponentLink1URL: http://www.murata.com/~/media/webrenewal/support/library/catalog/products/capacitor/mlcc/c02e.ashx; ComponentLink2Description: Digi-Key listing; ComponentLink2URL: http://digikey.com/product-detail/en/GJM1555C1H2R4BB01D/490-8093-2-ND/2592926; Voltage: 50V; Price: 0.0393; Device Package: 0402 (1005 Metric)
footprint CAP 0402/1005 RF
pins: 1, 2

## GJM1555C1H2R4CB01D
designator C?, comment 2.4pF
CAP CER 2.4PF 50V NP0 0402; Part Number: GJM1555C1H2R4CB01D; Manufacturer: Murata Electronics North America; TemperatureRange: -55C ~ 125C; TemperatureCoefficient: C0G, NP0; Tolerance: 0.25pF; Type: High Q, Low Loss; Value: 2.4pF; PartId: 3735; Supplier 1: Digi-Key; Supplier Part Number 1: 490-3092-2-ND; ComponentLink1Description: Datasheet; ComponentLink1URL: http://www.murata.com/~/media/webrenewal/support/library/catalog/products/capacitor/mlcc/c02e.ashx; ComponentLink2Description: Digi-Key listing; ComponentLink2URL: http://digikey.com/product-detail/en/GJM1555C1H2R4CB01D/490-3092-2-ND/702285; Voltage: 50V; Price: 0.0211; Device Package: 0402 (1005 Metric)
footprint CAP 0402/1005 RF
pins: 1, 2

## GJM1555C1H2R7CB01D
designator C?, comment 2.7pF
CAP CER 2.7PF 50V NP0 0402; Part Number: GJM1555C1H2R7CB01D; Manufacturer: Murata Electronics North America; TemperatureRange: -55C ~ 125C; TemperatureCoefficient: C0G, NP0; Tolerance: 0.25pF; Type: High Q, Low Loss; Value: 2.7pF; PartId: 3715; Supplier 1: Digi-Key; Supplier Part Number 1: 490-3093-2-ND; ComponentLink1Description: Datasheet; ComponentLink1URL: http://www.murata.com/~/media/webrenewal/support/library/catalog/products/capacitor/mlcc/c02e.ashx; ComponentLink2Description: Digi-Key listing; ComponentLink2URL: http://digikey.com/product-detail/en/GJM1555C1H2R7CB01D/490-3093-2-ND/702286; Voltage: 50V; Price: 0.016; Device Package: 0402 (1005 Metric)
footprint CAP 0402/1005 RF
pins: 1, 2

## GJM1555C1H3R0BB01D
designator C?, comment 3pF
CAP CER 3PF 50V NP0 0402; Part Number: GJM1555C1H3R0BB01D; Manufacturer: Murata Electronics North America; TemperatureRange: -55C ~ 125C; TemperatureCoefficient: C0G, NP0; Tolerance: 0.1pF; Type: High Q, Low Loss; Value: 3pF; PartId: 3754; Supplier 1: Digi-Key; Supplier Part Number 1: 490-8095-2-ND; ComponentLink1Description: Datasheet; ComponentLink1URL: http://www.murata.com/~/media/webrenewal/support/library/catalog/products/capacitor/mlcc/c02e.ashx; ComponentLink2Description: Digi-Key listing; ComponentLink2URL: http://digikey.com/product-detail/en/GJM1555C1H3R0BB01D/490-8095-2-ND/2592946; Voltage: 50V; Price: 0.0393; Device Package: 0402 (1005 Metric)
footprint CAP 0402/1005 RF
pins: 1, 2

## GJM1555C1H3R0CB01J
designator C?, comment 3pF
CAP CER 3PF 50V NP0 0402; Part Number: GJM1555C1H3R0CB01J; Manufacturer: Murata Electronics North America; TemperatureRange: -55C ~ 125C; TemperatureCoefficient: C0G, NP0; Tolerance: 0.25pF; Type: High Q, Low Loss; Value: 3pF; PartId: 3771; Supplier 1: Digi-Key; Supplier Part Number 1: 490-8096-2-ND; ComponentLink1Description: Datasheet; ComponentLink1URL: http://www.murata.com/~/media/webrenewal/support/library/catalog/products/capacitor/mlcc/c02e.ashx; ComponentLink2Description: Digi-Key listing; ComponentLink2URL: http://digikey.com/product-detail/en/GJM1555C1H3R0CB01J/490-8096-2-ND/2592947; Voltage: 50V; Price: 0.0171; Device Package: 0402 (1005 Metric)
footprint CAP 0402/1005 RF
pins: 1, 2

## GJM1555C1H3R0WB01D
designator C?, comment 3pF
CAP CER 3PF 50V NP0 0402; Part Number: GJM1555C1H3R0WB01D; Manufacturer: Murata Electronics North America; TemperatureRange: -55C ~ 125C; TemperatureCoefficient: C0G, NP0; Tolerance: 0.05pF; Type: High Q, Low Loss; Value: 3pF; PartId: 3780; Supplier 1: Digi-Key; Supplier Part Number 1: 490-11211-2-ND; ComponentLink1Description: Datasheet; ComponentLink1URL: http://www.murata.com/~/media/webrenewal/support/library/catalog/products/capacitor/mlcc/c02e.ashx; ComponentLink2Description: Digi-Key listing; ComponentLink2URL: http://digikey.com/product-detail/en/GJM1555C1H3R0WB01D/490-11211-2-ND/2592948; Voltage: 50V; Price: 0.0678; Device Package: 0402 (1005 Metric)
footprint CAP 0402/1005 RF
pins: 1, 2

## GJM1555C1H3R3BB01D
designator C?, comment 3.3pF
CAP CER 3.3PF 50V NP0 0402; Part Number: GJM1555C1H3R3BB01D; Manufacturer: Murata Electronics North America; TemperatureRange: -55C ~ 125C; TemperatureCoefficient: C0G, NP0; Tolerance: 0.1pF; Type: High Q, Low Loss; Value: 3.3pF; PartId: 3766; Supplier 1: Digi-Key; Supplier Part Number 1: 490-8097-2-ND; ComponentLink1Description: Datasheet; ComponentLink1URL: http://www.murata.com/~/media/webrenewal/support/library/catalog/products/capacitor/mlcc/c02e.ashx; ComponentLink2Description: Digi-Key listing; ComponentLink2URL: http://digikey.com/product-detail/en/GJM1555C1H3R3BB01D/490-8097-2-ND/2592955; Voltage: 50V; Price: 0.0393; Device Package: 0402 (1005 Metric)
footprint CAP 0402/1005 RF
pins: 1, 2

## GJM1555C1H3R3CB01D
designator C?, comment 3.3pF
CAP CER 3.3PF 50V NP0 0402; Part Number: GJM1555C1H3R3CB01D; Manufacturer: Murata Electronics North America; TemperatureRange: -55C ~ 125C; TemperatureCoefficient: C0G, NP0; Tolerance: 0.25pF; Type: High Q, Low Loss; Value: 3.3pF; PartId: 3719; Supplier 1: Digi-Key; Supplier Part Number 1: 490-3095-2-ND; ComponentLink1Description: Datasheet; ComponentLink1URL: http://www.murata.com/~/media/webrenewal/support/library/catalog/products/capacitor/mlcc/c02e.ashx; ComponentLink2Description: Digi-Key listing; ComponentLink2URL: http://digikey.com/product-detail/en/GJM1555C1H3R3CB01D/490-3095-2-ND/702288; Voltage: 50V; Price: 0.016; Device Package: 0402 (1005 Metric)
footprint CAP 0402/1005 RF
pins: 1, 2

## GJM1555C1H3R6BB01D
designator C?, comment 3.6pF
CAP CER 3.6PF 50V NP0 0402; Part Number: GJM1555C1H3R6BB01D; Manufacturer: Murata Electronics North America; TemperatureRange: -55C ~ 125C; TemperatureCoefficient: C0G, NP0; Tolerance: 0.1pF; Type: High Q, Low Loss; Value: 3.6pF; PartId: 3744; Supplier 1: Digi-Key; Supplier Part Number 1: 490-8098-2-ND; ComponentLink1Description: Datasheet; ComponentLink1URL: http://www.murata.com/~/media/webrenewal/support/library/catalog/products/capacitor/mlcc/c02e.ashx; ComponentLink2Description: Digi-Key listing; ComponentLink2URL: http://digikey.com/product-detail/en/GJM1555C1H3R6BB01D/490-8098-2-ND/2592965; Voltage: 50V; Price: 0.0393; Device Package: 0402 (1005 Metric)
footprint CAP 0402/1005 RF
pins: 1, 2

## GJM1555C1H4R0BB01D
designator C?, comment 4pF
CAP CER 4PF 50V NP0 0402; Part Number: GJM1555C1H4R0BB01D; Manufacturer: Murata Electronics North America; TemperatureRange: -55C ~ 125C; TemperatureCoefficient: C0G, NP0; Tolerance: 0.1pF; Type: High Q, Low Loss; Value: 4pF; PartId: 3767; Supplier 1: Digi-Key; Supplier Part Number 1: 490-8100-2-ND; ComponentLink1Description: Datasheet; ComponentLink1URL: http://www.murata.com/~/media/webrenewal/support/library/catalog/products/capacitor/mlcc/c02e.ashx; ComponentLink2Description: Digi-Key listing; ComponentLink2URL: http://digikey.com/product-detail/en/GJM1555C1H4R0BB01D/490-8100-2-ND/2592981; Voltage: 50V; Price: 0.0393; Device Package: 0402 (1005 Metric)
footprint CAP 0402/1005 RF
pins: 1, 2

## GJM1555C1H4R0CB01D
designator C?, comment 4pF
CAP CER 4PF 50V NP0 0402; Part Number: GJM1555C1H4R0CB01D; Manufacturer: Murata Electronics North America; TemperatureRange: -55C ~ 125C; TemperatureCoefficient: C0G, NP0; Tolerance: 0.25pF; Type: High Q, Low Loss; Value: 4pF; PartId: 3721; Supplier 1: Digi-Key; Supplier Part Number 1: 490-3098-2-ND; ComponentLink1Description: Datasheet; ComponentLink1URL: http://www.murata.com/~/media/webrenewal/support/library/catalog/products/capacitor/mlcc/c02e.ashx; ComponentLink2Description: Digi-Key listing; ComponentLink2URL: http://digikey.com/product-detail/en/GJM1555C1H4R0CB01D/490-3098-2-ND/702291; Voltage: 50V; Price: 0.016; Device Package: 0402 (1005 Metric)
footprint CAP 0402/1005 RF
pins: 1, 2

## GJM1555C1H4R3BB01D
designator C?, comment 4.3pF
CAP CER 4.3PF 50V NP0 0402; Part Number: GJM1555C1H4R3BB01D; Manufacturer: Murata Electronics North America; TemperatureRange: -55C ~ 125C; TemperatureCoefficient: C0G, NP0; Tolerance: 0.1pF; Type: High Q, Low Loss; Value: 4.3pF; PartId: 3757; Supplier 1: Digi-Key; Supplier Part Number 1: 490-8582-2-ND; ComponentLink1Description: Datasheet; ComponentLink1URL: http://www.murata.com/~/media/webrenewal/support/library/catalog/products/capacitor/mlcc/c02e.ashx; ComponentLink2Description: Digi-Key listing; ComponentLink2URL: http://digikey.com/product-detail/en/GJM1555C1H4R3BB01D/490-8582-2-ND/1130301; Voltage: 50V; Price: 0.0393; Device Package: 0402 (1005 Metric)
footprint CAP 0402/1005 RF
pins: 1, 2

## GJM1555C1H4R3CB01D
designator C?, comment 4.3pF
CAP CER 4.3PF 50V NP0 0402; Part Number: GJM1555C1H4R3CB01D; Manufacturer: Murata Electronics North America; TemperatureRange: -55C ~ 125C; TemperatureCoefficient: C0G, NP0; Tolerance: 0.25pF; Type: High Q, Low Loss; Value: 4.3pF; PartId: 3714; Supplier 1: Digi-Key; Supplier Part Number 1: 490-3099-2-ND; ComponentLink1Description: Datasheet; ComponentLink1URL: http://www.murata.com/~/media/webrenewal/support/library/catalog/products/capacitor/mlcc/c02e.ashx; ComponentLink2Description: Digi-Key listing; ComponentLink2URL: http://digikey.com/product-detail/en/GJM1555C1H4R3CB01D/490-3099-2-ND/702292; Voltage: 50V; Price: 0.016; Device Package: 0402 (1005 Metric)
footprint CAP 0402/1005 RF
pins: 1, 2

## GJM1555C1H4R5BB01D
designator C?, comment 4.5pF
CAP CER 4.5PF 50V NP0 0402; Part Number: GJM1555C1H4R5BB01D; Manufacturer: Murata Electronics North America; TemperatureRange: -55C ~ 125C; TemperatureCoefficient: C0G, NP0; Tolerance: 0.1pF; Type: High Q, Low Loss; Value: 4.5pF; PartId: 3768; Supplier 1: Digi-Key; Supplier Part Number 1: 490-8101-2-ND; ComponentLink1Description: Datasheet; ComponentLink1URL: http://www.murata.com/~/media/webrenewal/support/library/catalog/products/capacitor/mlcc/c02e.ashx; ComponentLink2Description: Digi-Key listing; ComponentLink2URL: http://digikey.com/product-detail/en/GJM1555C1H4R5BB01D/490-8101-2-ND/2592999; Voltage: 50V; Price: 0.0393; Device Package: 0402 (1005 Metric)
footprint CAP 0402/1005 RF
pins: 1, 2

## GJM1555C1H4R7CB01D
designator C?, comment 4.7pF
CAP CER 4.7PF 50V NP0 0402; Part Number: GJM1555C1H4R7CB01D; Manufacturer: Murata Electronics North America; TemperatureRange: -55C ~ 125C; TemperatureCoefficient: C0G, NP0; Tolerance: 0.25pF; Type: High Q, Low Loss; Value: 4.7pF; PartId: 3729; Supplier 1: Digi-Key; Supplier Part Number 1: 490-3100-2-ND; ComponentLink1Description: Datasheet; ComponentLink1URL: http://www.murata.com/~/media/webrenewal/support/library/catalog/products/capacitor/mlcc/c02e.ashx; ComponentLink2Description: Digi-Key listing; ComponentLink2URL: http://digikey.com/product-detail/en/GJM1555C1H4R7CB01D/490-3100-2-ND/702293; Voltage: 50V; Price: 0.0211; Device Package: 0402 (1005 Metric)
footprint CAP 0402/1005 RF
pins: 1, 2

## GJM1555C1H5R0BB01D
designator C?, comment 5pF
CAP CER 5PF 50V NP0 0402; Part Number: GJM1555C1H5R0BB01D; Manufacturer: Murata Electronics North America; TemperatureRange: -55C ~ 125C; TemperatureCoefficient: C0G, NP0; Tolerance: 0.1pF; Type: High Q, Low Loss; Value: 5pF; PartId: 3748; Supplier 1: Digi-Key; Supplier Part Number 1: 490-8103-2-ND; ComponentLink1Description: Datasheet; ComponentLink1URL: http://www.murata.com/~/media/webrenewal/support/library/catalog/products/capacitor/mlcc/c02e.ashx; ComponentLink2Description: Digi-Key listing; ComponentLink2URL: http://digikey.com/product-detail/en/GJM1555C1H5R0BB01D/490-8103-2-ND/2593016; Voltage: 50V; Price: 0.0393; Device Package: 0402 (1005 Metric)
footprint CAP 0402/1005 RF
pins: 1, 2